# EAGLE library part DG444 (library AnalogMultiplexors)
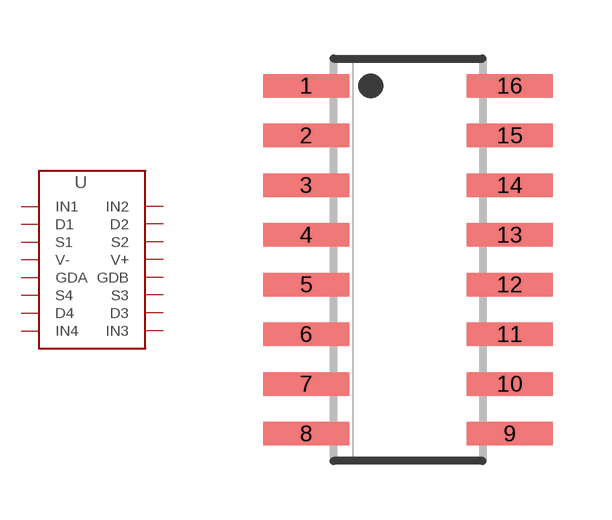
[diagram p0: symbol with the pads of SOIC16; footprint SOIC16]

Designator prefix -

## DG444  [SOIC16]
1  IN1
2  D1
3  S1
4  V-  pwr
5  GDA  pwr
6  S4
7  D4
8  IN4
9  IN3
10  D3
11  S3
12  GDB  pwr
13  V+  pwr
14  S2
15  D2
16  IN2

## Footprint SOIC16 (pad centres in mm)
smd 2.2 x 0.6: 1 -2.6,4.445; 2 -2.6,3.175; 3 -2.6,1.905; 4 -2.6,0.635; 5 -2.6,-0.635; 6 -2.6,-1.905; 7 -2.6,-3.175; 8 -2.6,-4.445; 9 2.6,-4.445; 10 2.6,-3.175; 11 2.6,-1.905; 12 2.6,-0.635; 13 2.6,0.635; 14 2.6,1.905; 15 2.6,3.175; 16 2.6,4.445